# EAGLE library part XR-2401Q (library exar)
MICROCONTROLLER
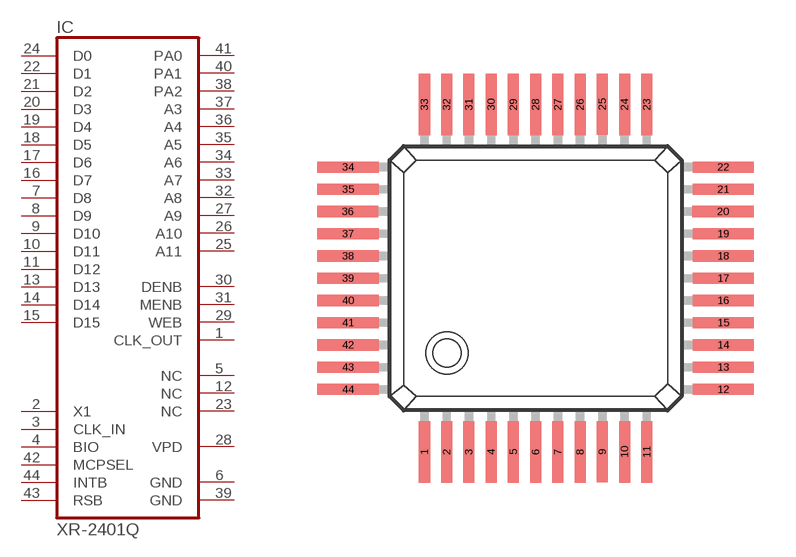
[diagram p84: symbol with the pads of QFP-44; footprint QFP-44]

Designator prefix IC

## XR-2401Q (OC_FARNELL: unknown; OC_NEWARK: unknown)  [QFP-44]
1  CLK_OUT  out
2  X1  in
3  CLK_IN  in
4  BIO  in
5  NC  nc
6  GND  pwr
7  D8
8  D9
9  D10
10  D11
11  D12
12  NC  nc
13  D13
14  D14
15  D15
16  D7
17  D6
18  D5
19  D4
20  D3
21  D2
22  D1
23  NC  nc
24  D0
25  A11  out
26  A10  out
27  A9  out
28  VPD  pwr
29  WEB  out
30  DENB  out
31  MENB  out
32  A8  out
33  A7  out
34  A6  out
35  A5  out
36  A4  out
37  A3  out
38  PA2  out
39  GND  pwr
40  PA1  out
41  PA0  out
42  MCPSEL  in
43  RSB  in
44  INTB  in

## Footprint QFP-44 (pad centres in mm)
Quad Flat Package
smd 0.4 x 2.2: 1 -4,-6.25; 2 -3.2,-6.25; 3 -2.4,-6.25; 4 -1.6,-6.25; 5 -0.8,-6.25; 6 0,-6.25; 7 0.8,-6.25; 8 1.6,-6.25; 9 2.4,-6.24; 10 3.2,-6.25; 11 4,-6.25; 23 4,6.25; 24 3.2,6.25; 25 2.4,6.26; 26 1.6,6.25; 27 0.8,6.25; 28 0,6.25; 29 -0.8,6.25; 30 -1.6,6.25; 31 -2.4,6.25; 32 -3.2,6.25; 33 -4,6.25
smd 2.2 x 0.4: 12 6.75,-4; 13 6.75,-3.2; 14 6.75,-2.4; 15 6.75,-1.6; 16 6.75,-0.8; 17 6.75,0; 18 6.75,0.8; 19 6.75,1.6; 20 6.74,2.4; 21 6.75,3.2; 22 6.75,4; 34 -6.75,4; 35 -6.75,3.2; 36 -6.76,2.4; 37 -6.75,1.6; 38 -6.75,0.8; 39 -6.75,0; 40 -6.75,-0.8; 41 -6.75,-1.6; 42 -6.75,-2.4; 43 -6.75,-3.2; 44 -6.75,-4